# Altium footprint library Coilcraft_XAL1510.PcbLib: 1 footprints
Each footprint in its own frame and in the unit in brackets; x right, y up, seen from the top. Pads: shape width x height; smd on the part's side, far side on the other; paste and mask are expansions set on the pad; w line width, h text height; cw(c..) or ccw(c..) is an arc to the next point about the centre after c.
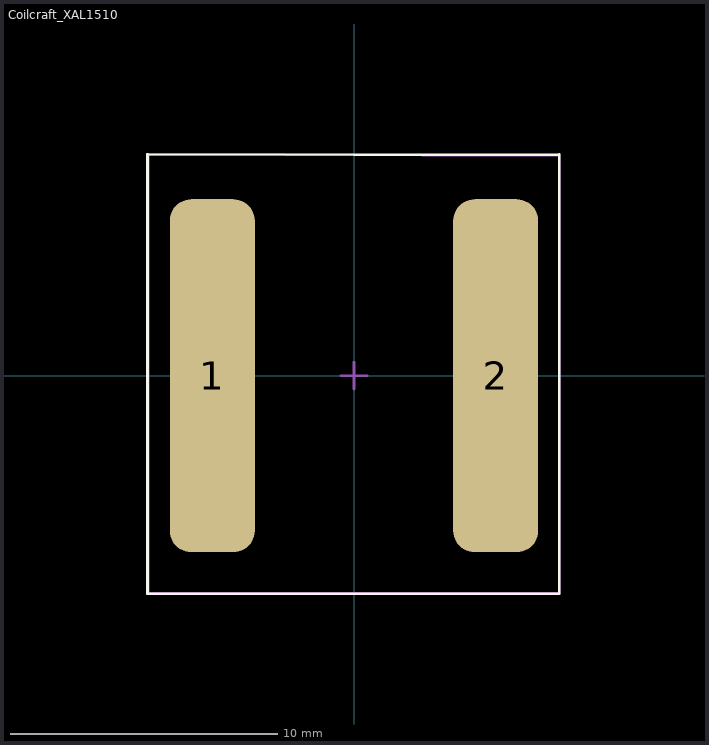
[diagram p0: the footprint, top view; thin cyan lines are the x and y axes]

## Coilcraft_XAL1510 [mm] "Coilcraft XAL1510 Series Coil"
height 10
pads (2):
  rrect50% 3.18x13.2 smd: 1(-5.3,0) 2(5.3,0)
Top Overlay:
  lines w0.1: 7.671,8.255 -7.722,8.28 -7.722,-8.153 7.671,-8.153 7.671,8.28
Mechanical 15:
  lines w0.1: -7.725,-8.148 7.675,-8.148 7.675,8.26 ; -7.725,8.28 7.671,8.23 ; -7.696,-8.128 -7.696,8.28 ; -0.5,0 0.5,0 ; 0,-0.5 0,0.5
3D body "Coilcraft-XAL1510-682.STEP": height 9.7, standoff -0.3, extent -7.725,-8.148 7.675,8.252